# Altium footprint library SOT23.PcbLib: 1 footprints
Each footprint in its own frame and in the unit in brackets; x right, y up, seen from the top. Pads: shape width x height; smd on the part's side, far side on the other; paste and mask are expansions set on the pad; w line width, h text height; cw(c..) or ccw(c..) is an arc to the next point about the centre after c.
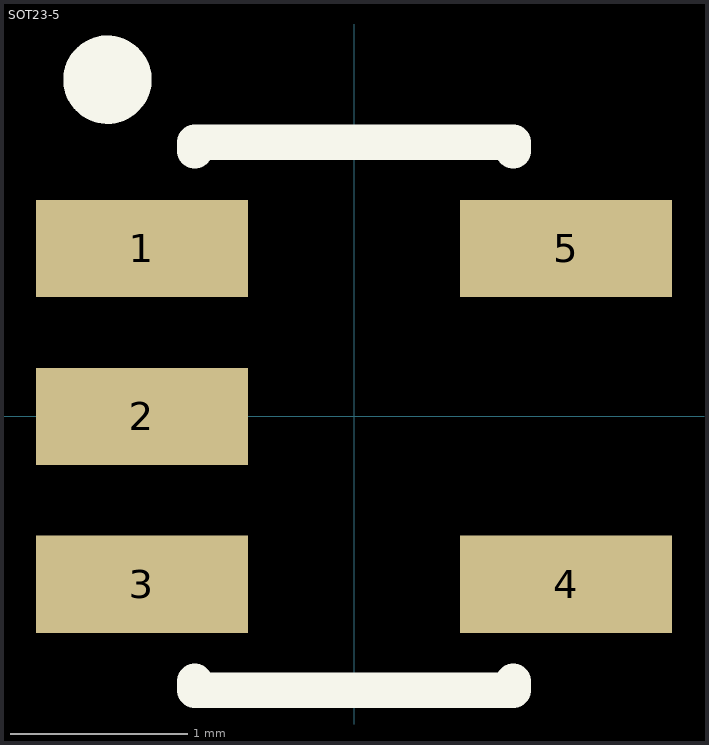
[diagram p0: the footprint, top view; thin cyan lines are the x and y axes]

## SOT23-5 [mm] "SOT23, 5-Leads, Body 3.0x3.0mm (max), Pitch 0.95mm"
height 1.45
pads (5):
  rect 1.2x0.55 smd: 1(-1.2,0.95) 2(-1.2,0) 3(-1.2,-0.95) 4(1.2,-0.95) 5(1.2,0.95)
Top Overlay:
  circle w0.25: c-1.395,1.905 r0.125
  lines w0.2: -0.9,-1.498 -0.9,-1.548 0.9,-1.548 0.9,-1.498 ; -0.9,1.502 -0.9,1.552 0.9,1.552 0.9,1.502
3D body: height 1.09, standoff -0.01, extent -1.403,-1.45 1.397,1.45